# Altium schematic symbol library adafruit.SCHLIB: 655 symbols (part 4 of 4)
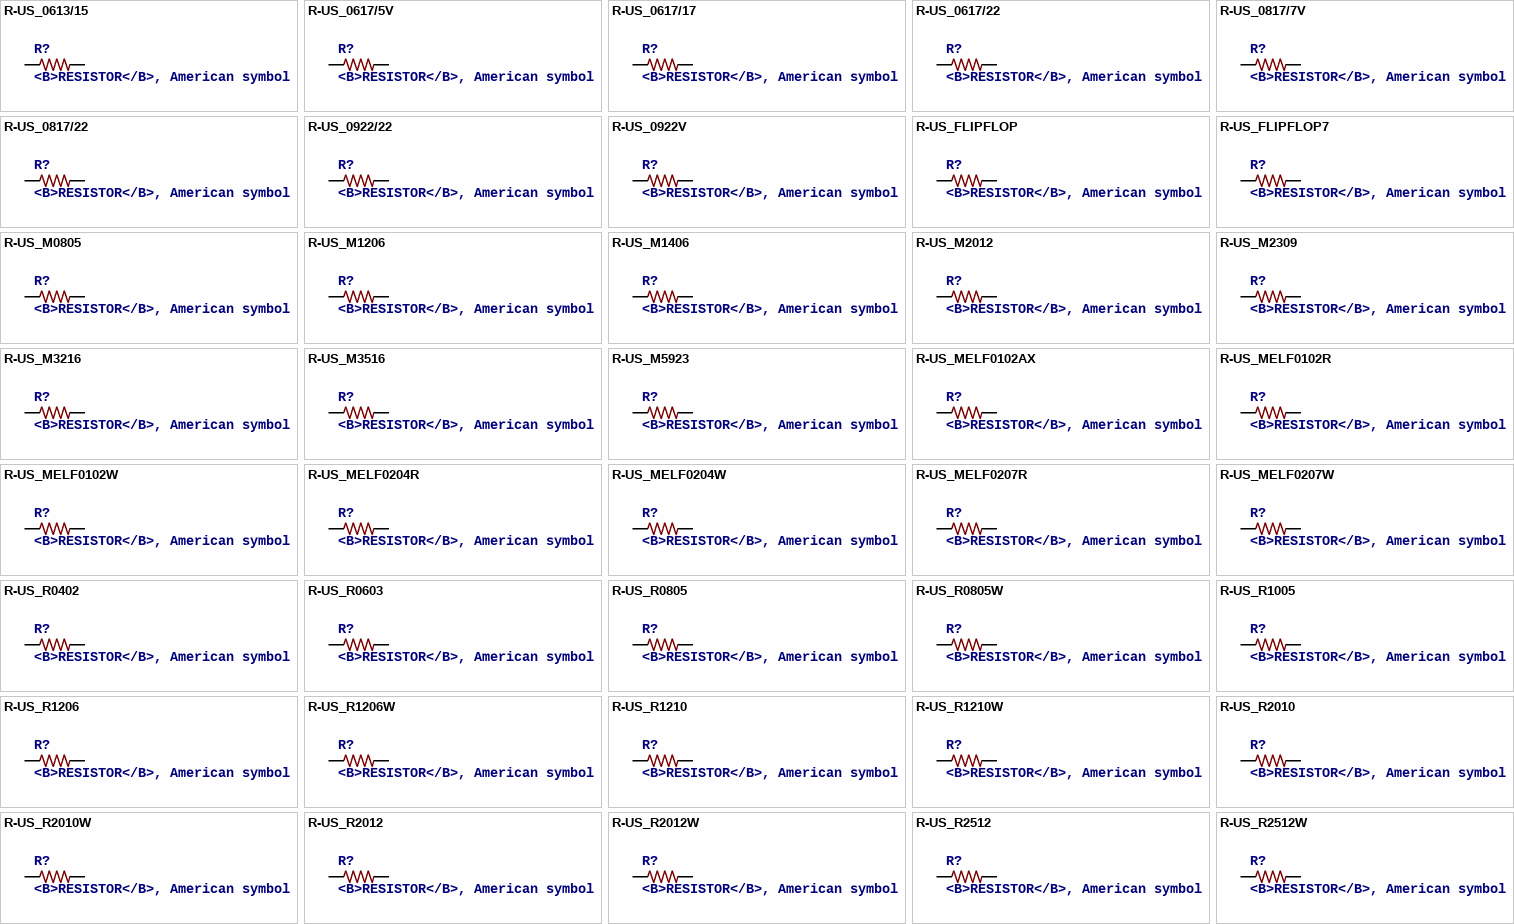
[diagram p34: symbols R-US_0613/15 to R-US_R2512W]

## R-US_MELF0207W
designator R?, comment <B>RESISTOR</B>, American symbol
footprint MINI_MELF-0207W
pins: 1, 2

## R-US_R0402
designator R?, comment <B>RESISTOR</B>, American symbol
footprint R0402
pins: 1, 2

## R-US_R0603
designator R?, comment <B>RESISTOR</B>, American symbol
footprint R0603
pins: 1, 2

## R-US_R0805
designator R?, comment <B>RESISTOR</B>, American symbol
footprint R0805
pins: 1, 2

## R-US_R0805W
designator R?, comment <B>RESISTOR</B>, American symbol
footprint R0805W
pins: 1, 2

## R-US_R1005
designator R?, comment <B>RESISTOR</B>, American symbol
footprint R1005
pins: 1, 2

## R-US_R1206
designator R?, comment <B>RESISTOR</B>, American symbol
footprint R1206
pins: 1, 2

## R-US_R1206W
designator R?, comment <B>RESISTOR</B>, American symbol
footprint R1206W
pins: 1, 2

## R-US_R1210
designator R?, comment <B>RESISTOR</B>, American symbol
footprint R1210
pins: 1, 2

## R-US_R1210W
designator R?, comment <B>RESISTOR</B>, American symbol
footprint R1210W
pins: 1, 2

## R-US_R2010
designator R?, comment <B>RESISTOR</B>, American symbol
footprint R2010
pins: 1, 2

## R-US_R2010W
designator R?, comment <B>RESISTOR</B>, American symbol
footprint R2010W
pins: 1, 2

## R-US_R2012
designator R?, comment <B>RESISTOR</B>, American symbol
footprint R2012
pins: 1, 2

## R-US_R2012W
designator R?, comment <B>RESISTOR</B>, American symbol
footprint R2012W
pins: 1, 2

## R-US_R2512
designator R?, comment <B>RESISTOR</B>, American symbol
footprint R2512
pins: 1, 2

## R-US_R2512W
designator R?, comment <B>RESISTOR</B>, American symbol
footprint R2512W
pins: 1, 2

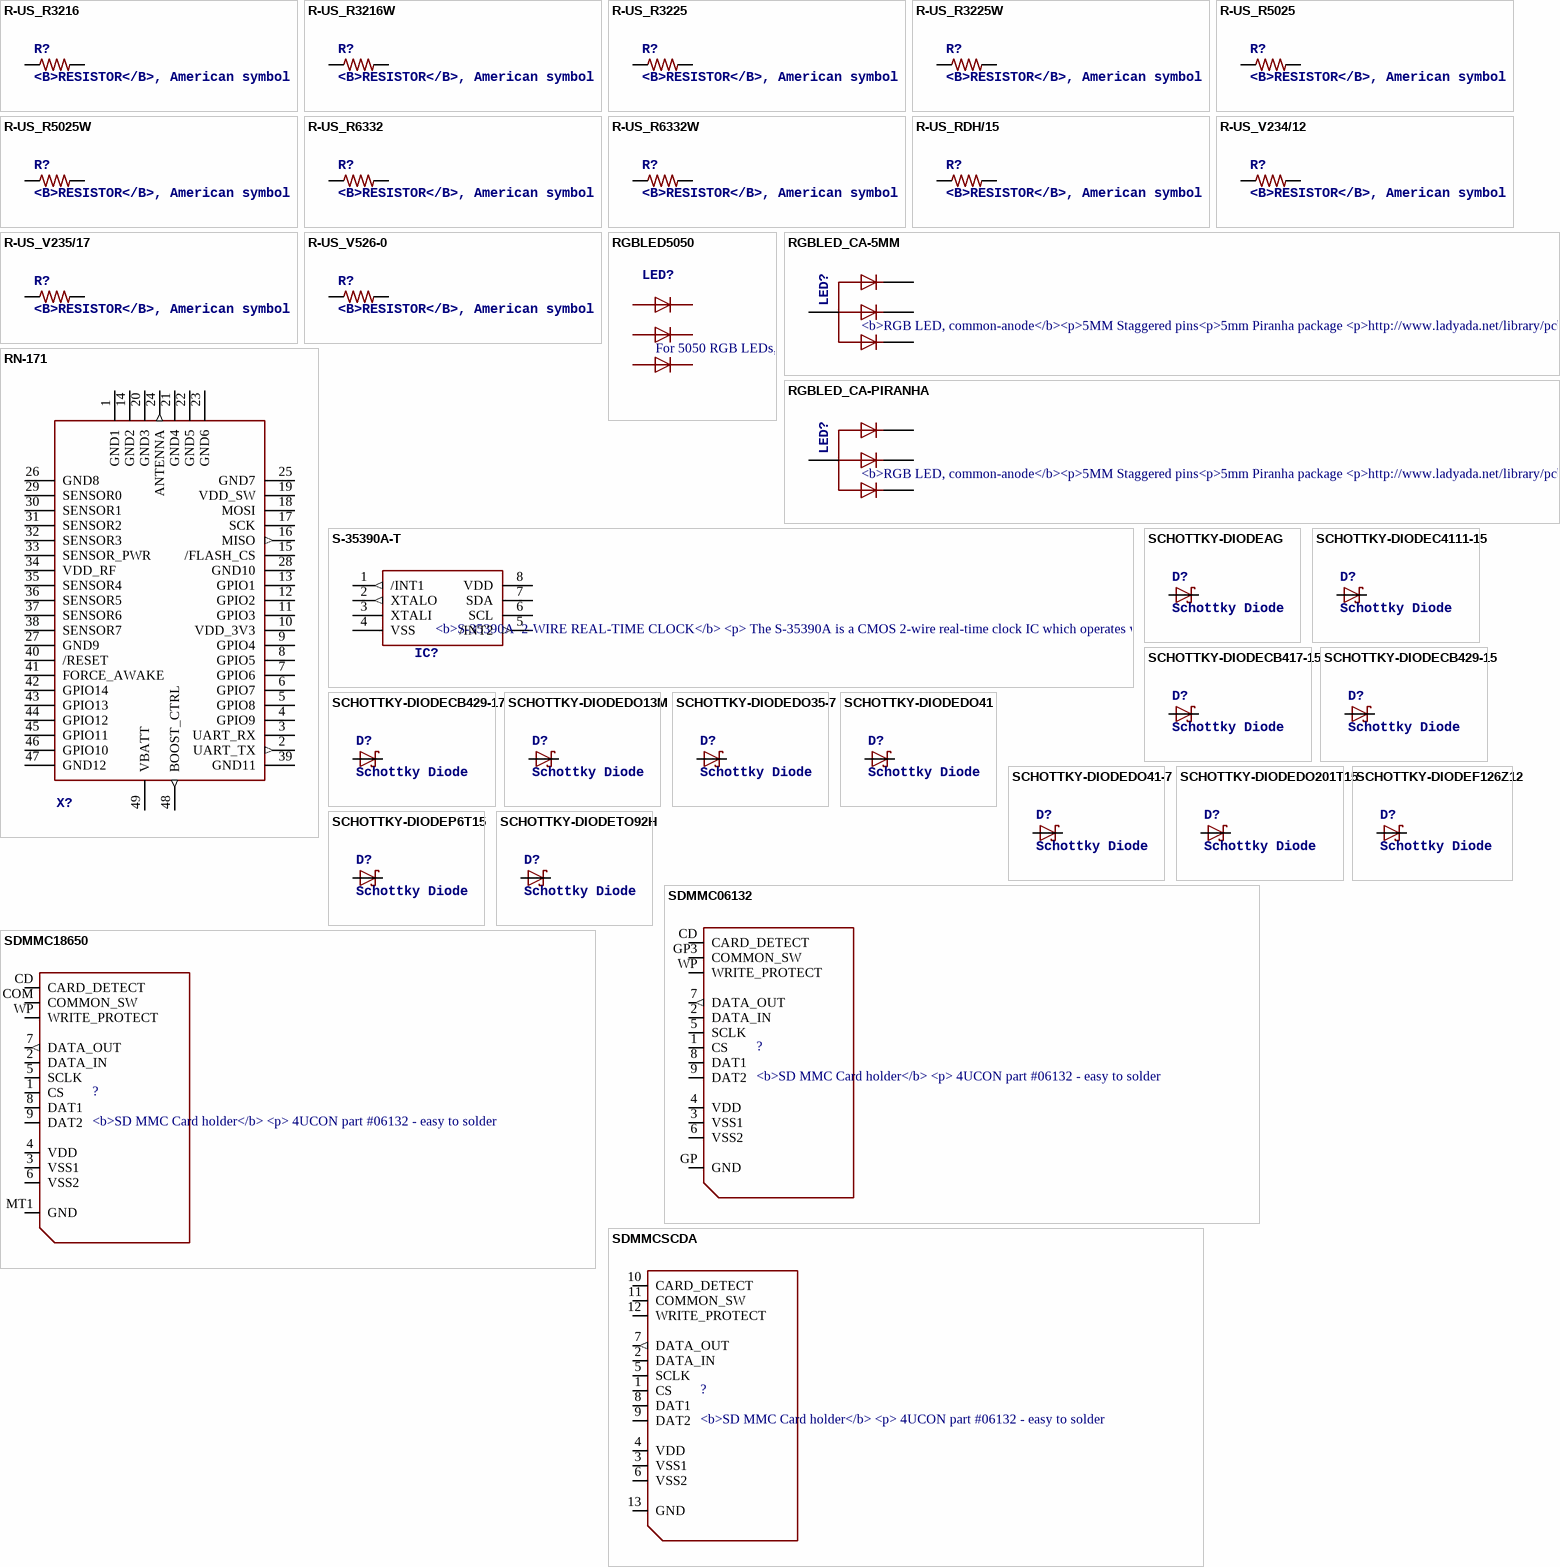
[diagram p27: symbols R-US_R3216 to SDMMCSCDA]

## R-US_R3216
designator R?, comment <B>RESISTOR</B>, American symbol
footprint R3216
pins: 1, 2

## R-US_R3216W
designator R?, comment <B>RESISTOR</B>, American symbol
footprint R3216W
pins: 1, 2

## R-US_R3225
designator R?, comment <B>RESISTOR</B>, American symbol
footprint R3225
pins: 1, 2

## R-US_R3225W
designator R?, comment <B>RESISTOR</B>, American symbol
footprint R3225W
pins: 1, 2

## R-US_R5025
designator R?, comment <B>RESISTOR</B>, American symbol
footprint R5025
pins: 1, 2

## R-US_R5025W
designator R?, comment <B>RESISTOR</B>, American symbol
footprint R5025W
pins: 1, 2

## R-US_R6332
designator R?, comment <B>RESISTOR</B>, American symbol
footprint R6332
pins: 1, 2

## R-US_R6332W
designator R?, comment <B>RESISTOR</B>, American symbol
footprint R6332W
pins: 1, 2

## R-US_RDH/15
designator R?, comment <B>RESISTOR</B>, American symbol
footprint RDH/15
pins: 1, 2

## R-US_V234/12
designator R?, comment <B>RESISTOR</B>, American symbol
footprint V234/12
pins: 1, 2

## R-US_V235/17
designator R?, comment <B>RESISTOR</B>, American symbol
footprint V235/17
pins: 1, 2

## R-US_V526-0
designator R?, comment <B>RESISTOR</B>, American symbol
footprint V526-0
pins: 1, 2

## RGBLED5050
designator LED?, comment For 5050 RGB LEDs, the order of the LEDs may vary from one manufacturer to another!
footprint RGBLED5050
pins: 1 GREEN_A, 2 RED_A, 3 BLUE_A, 4 BLUE_C, 5 RED_C, 6 GREEN_C

## RGBLED_CA-5MM
designator LED?, comment <b>RGB LED, common-anode</b><p>5MM Staggered pins<p>5mm Piranha package / <p>http://www.ladyada.net/library/pcb/eaglelibrary.html<p>
footprint LED5MMRGB
pins: 1 RED, 2 VCC, 3 GREEN, 4 BLUE

## RGBLED_CA-PIRANHA
designator LED?, comment <b>RGB LED, common-anode</b><p>5MM Staggered pins<p>5mm Piranha package / <p>http://www.ladyada.net/library/pcb/eaglelibrary.html<p>
footprint PIRANHA5MM
pins: 1 BLUE, 2 RED, 3 GREEN, 4 VCC

## RN-171
designator X?
footprint RN-171
pins: 1 GND1 (power), 2 UART_TX (out), 3 UART_RX, 4 GPIO9, 5 GPIO8, 6 GPIO7, 7 GPIO6, 8 GPIO5, 9 GPIO4, 10 VDD_3V3 (power), 11 GPIO3, 12 GPIO2, 13 GPIO1, 14 GND2 (power), 15 /FLASH_CS, 16 MISO (out), 17 SCK, 18 MOSI, 19 VDD_SW, 20 GND3 (power), 21 GND4 (power), 22 GND5 (power), 23 GND6 (power), 24 ANTENNA (out), 25 GND7 (power), 26 GND8 (power), 27 GND9 (power), 28 GND10 (power), 29 SENSOR0, 30 SENSOR1, 31 SENSOR2, 32 SENSOR3, 33 SENSOR_PWR (power), 34 VDD_RF (power), 35 SENSOR4, 36 SENSOR5, 37 SENSOR6, 38 SENSOR7, 39 GND11 (power), 40 /RESET, 41 FORCE_AWAKE, 42 GPIO14, 43 GPIO13, 44 GPIO12, 45 GPIO11, 46 GPIO10, 47 GND12 (power), 48 BOOST_CTRL (out), 49 VBATT

## S-35390A-T
designator IC?, comment <b>S-35390A  2-WIRE REAL-TIME CLOCK</b> / <p> / The S-35390A is a CMOS 2-wire real-time clock IC which operates with the very low current consumption and in the wide / range of operation voltage. The operation voltage is 1.3 V to 5.5 V so that this IC can be used for various power supplies from / main supply to backup battery. Due to the 0.25 ?A current consumption and wide range of power supply voltage at time / keeping, this IC makes the battery life longer. In the system which operates with a backup battery, the included free registers / can be used as the function for user?s backup memory
footprint TSSOP-8
pins: 1 /INT1 (out), 2 XTALO (out), 3 XTALI, 4 VSS (power), 5 /INT2 (out), 6 SCL, 7 SDA, 8 VDD (power)

## SCHOTTKY-DIODEAG
designator D?, comment Schottky Diode
footprint AG
pins: A, C

## SCHOTTKY-DIODEC4111-15
designator D?, comment Schottky Diode
footprint C4111-15
pins: A, C

## SCHOTTKY-DIODECB417-15
designator D?, comment Schottky Diode
footprint CB417-15
pins: A, C

## SCHOTTKY-DIODECB429-15
designator D?, comment Schottky Diode
footprint CB429-15
pins: A, C

## SCHOTTKY-DIODECB429-17
designator D?, comment Schottky Diode
footprint CB429-17
pins: A, C

## SCHOTTKY-DIODEDO13M
designator D?, comment Schottky Diode
footprint DO13M
pins: A, C

## SCHOTTKY-DIODEDO35-7
designator D?, comment Schottky Diode
footprint DO35-7
pins: A, C

## SCHOTTKY-DIODEDO41
designator D?, comment Schottky Diode
footprint DO41-10
pins: A, C

## SCHOTTKY-DIODEDO41-7
designator D?, comment Schottky Diode
footprint DO41-7
pins: A, C

## SCHOTTKY-DIODEDO201T15
designator D?, comment Schottky Diode
footprint DO201T15
pins: A, C

## SCHOTTKY-DIODEF126Z12
designator D?, comment Schottky Diode
footprint F126Z12
pins: A, C

## SCHOTTKY-DIODEP6T15
designator D?, comment Schottky Diode
footprint P6T15
pins: A, C

## SCHOTTKY-DIODETO92H
designator D?, comment Schottky Diode
footprint TO92H
pins: 1 A, 2 C

## SDMMC06132
designator ?, comment <b>SD MMC Card holder</b> / <p> / 4UCON part #06132 - easy to solder
footprint 06132
pins: 1 CS, 2 DATA_IN, 3 VSS1 (oe), 4 VDD (oe), 5 SCLK, 6 VSS2 (oe), 7 DATA_OUT (out), 8 DAT1, 9 DAT2, CD CARD_DETECT, GP GND (oe), GP3 COMMON_SW, WP WRITE_PROTECT

## SDMMC18650
designator ?, comment <b>SD MMC Card holder</b> / <p> / 4UCON part #06132 - easy to solder
footprint SDCARD
pins: 1 CS, 2 DATA_IN, 3 VSS1 (oe), 4 VDD (oe), 5 SCLK, 6 VSS2 (oe), 7 DATA_OUT (out), 8 DAT1, 9 DAT2, CD CARD_DETECT, COM COMMON_SW, MT1 GND (oe), WP WRITE_PROTECT

## SDMMCSCDA
designator ?, comment <b>SD MMC Card holder</b> / <p> / 4UCON part #06132 - easy to solder
footprint SCDA
pins: 1 CS, 2 DATA_IN, 3 VSS1 (oe), 4 VDD (oe), 5 SCLK, 6 VSS2 (oe), 7 DATA_OUT (out), 8 DAT1, 9 DAT2, 10 CARD_DETECT, 11 COMMON_SW, 12 WRITE_PROTECT, 13 GND (oe)

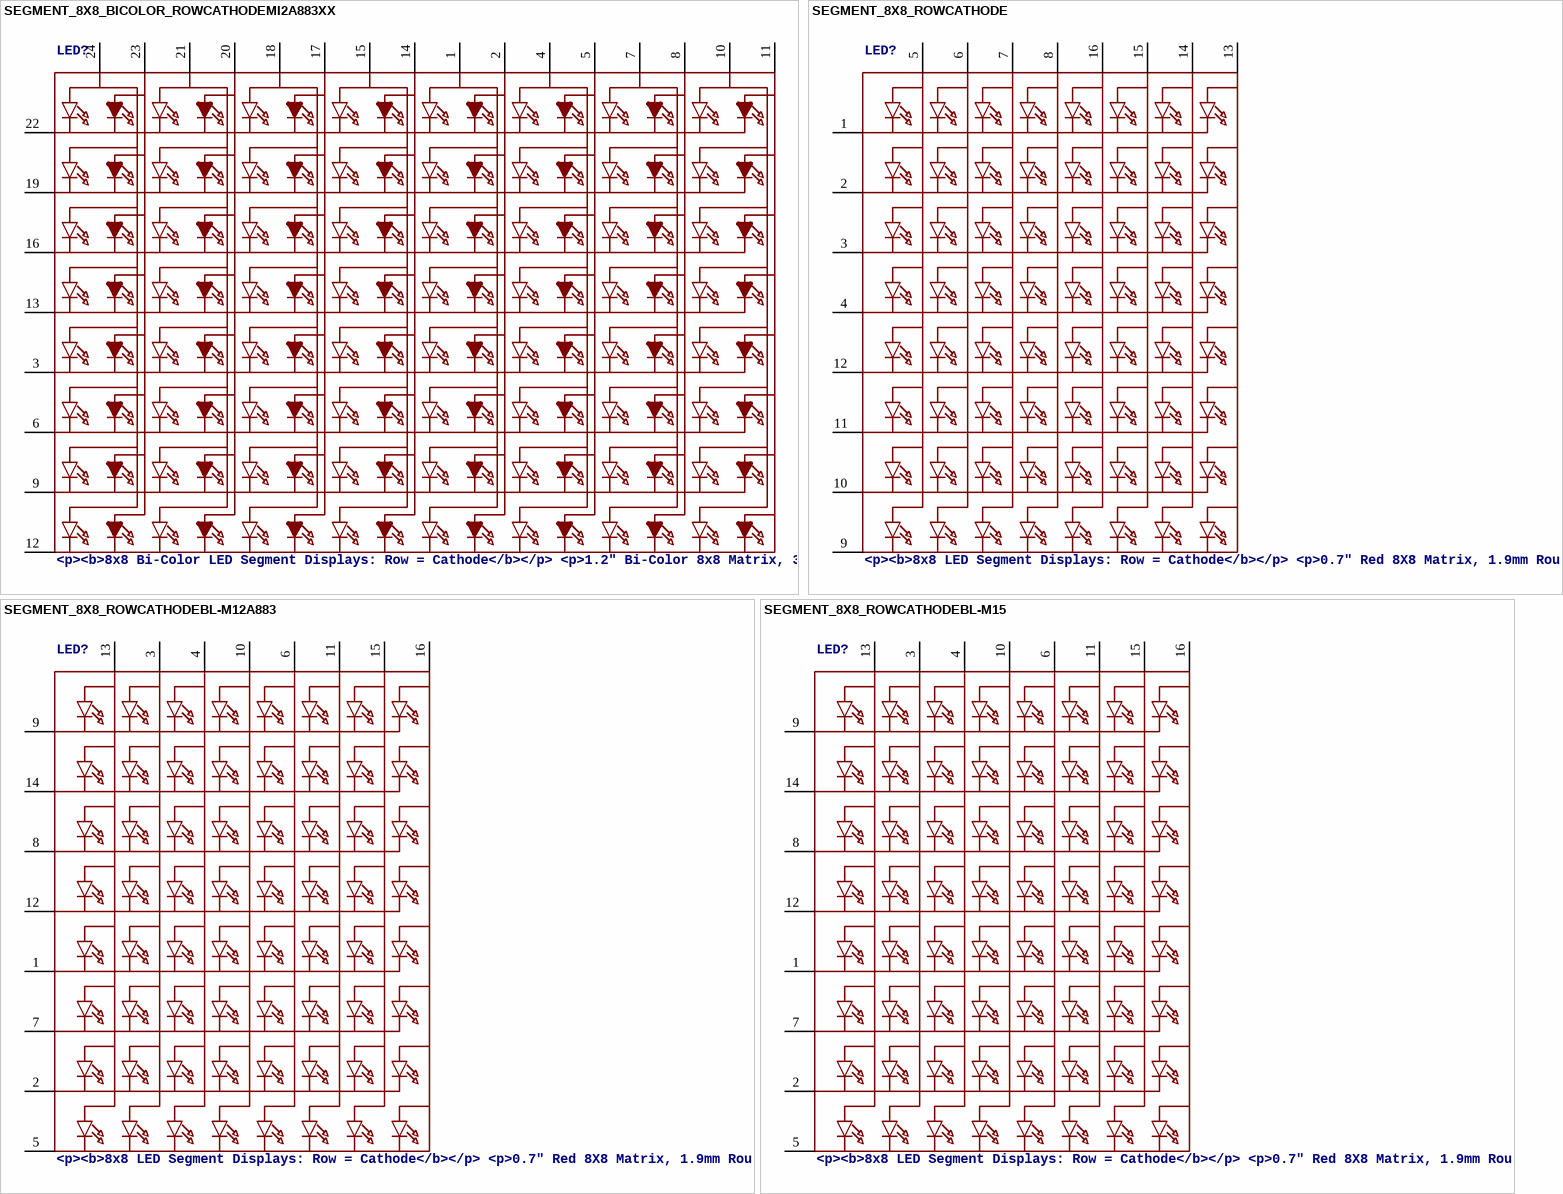
[diagram p28: symbols SEGMENT_8X8_BICOLOR_ROWCATHODEMI2A883XX to SEGMENT_8X8_ROWCATHODEBL-M15]

## SEGMENT_8X8_BICOLOR_ROWCATHODEMI2A883XX
designator LED?, comment <p><b>8x8 Bi-Color LED Segment Displays: Row = Cathode</b></p> / <p>1.2" Bi-Color 8x8 Matrix, 3.0mm Square LEDs - BL-M12A883XX</p>
footprint SEGMENT_BICOL_BL-M12A883XX
pins: 1 A9, 2 A10, 3 K5, 4 A11, 5 A12, 6 K6, 7 A13, 8 A14, 9 K7, 10 A15, 11 A16, 12 K8, 13 K4, 14 A8, 15 A7, 16 K3, 17 A6, 18 A5, 19 K2, 20 A4, 21 A3, 22 K1, 23 A2, 24 A1

## SEGMENT_8X8_ROWCATHODE
designator LED?, comment <p><b>8x8 LED Segment Displays: Row = Cathode</b></p> / <p>0.7" Red 8X8 Matrix, 1.9mm Round LEDs - BL-M07C881UR</p> / <p>1.2" Red 8x8 Matrix, 3.0mm Round LEDs - BL-M12A881UR</p> / <p>1.2" Red 8x8 Matrix, 3.0mm Square LEDs - BL-M12A883</p>
footprint SEGMENT_BL-M07C881UR
pins: 1 K1, 2 K2, 3 K3, 4 K4, 5 A1, 6 A2, 7 A3, 8 A4, 9 K8, 10 K7, 11 K6, 12 K5, 13 A8, 14 A7, 15 A6, 16 A5

## SEGMENT_8X8_ROWCATHODEBL-M12A883
designator LED?, comment <p><b>8x8 LED Segment Displays: Row = Cathode</b></p> / <p>0.7" Red 8X8 Matrix, 1.9mm Round LEDs - BL-M07C881UR</p> / <p>1.2" Red 8x8 Matrix, 3.0mm Round LEDs - BL-M12A881UR</p> / <p>1.2" Red 8x8 Matrix, 3.0mm Square LEDs - BL-M12A883</p>
footprint SEGMENT_BL-M12A883
pins: 1 K5, 2 K7, 3 A2, 4 A3, 5 K8, 6 A5, 7 K6, 8 K3, 9 K1, 10 A4, 11 A6, 12 K4, 13 A1, 14 K2, 15 A7, 16 A8

## SEGMENT_8X8_ROWCATHODEBL-M15
designator LED?, comment <p><b>8x8 LED Segment Displays: Row = Cathode</b></p> / <p>0.7" Red 8X8 Matrix, 1.9mm Round LEDs - BL-M07C881UR</p> / <p>1.2" Red 8x8 Matrix, 3.0mm Round LEDs - BL-M12A881UR</p> / <p>1.2" Red 8x8 Matrix, 3.0mm Square LEDs - BL-M12A883</p>
footprint SEGMENT_BL-M15A881
pins: 1 K5, 2 K7, 3 A2, 4 A3, 5 K8, 6 A5, 7 K6, 8 K3, 9 K1, 10 A4, 11 A6, 12 K4, 13 A1, 14 K2, 15 A7, 16 A8

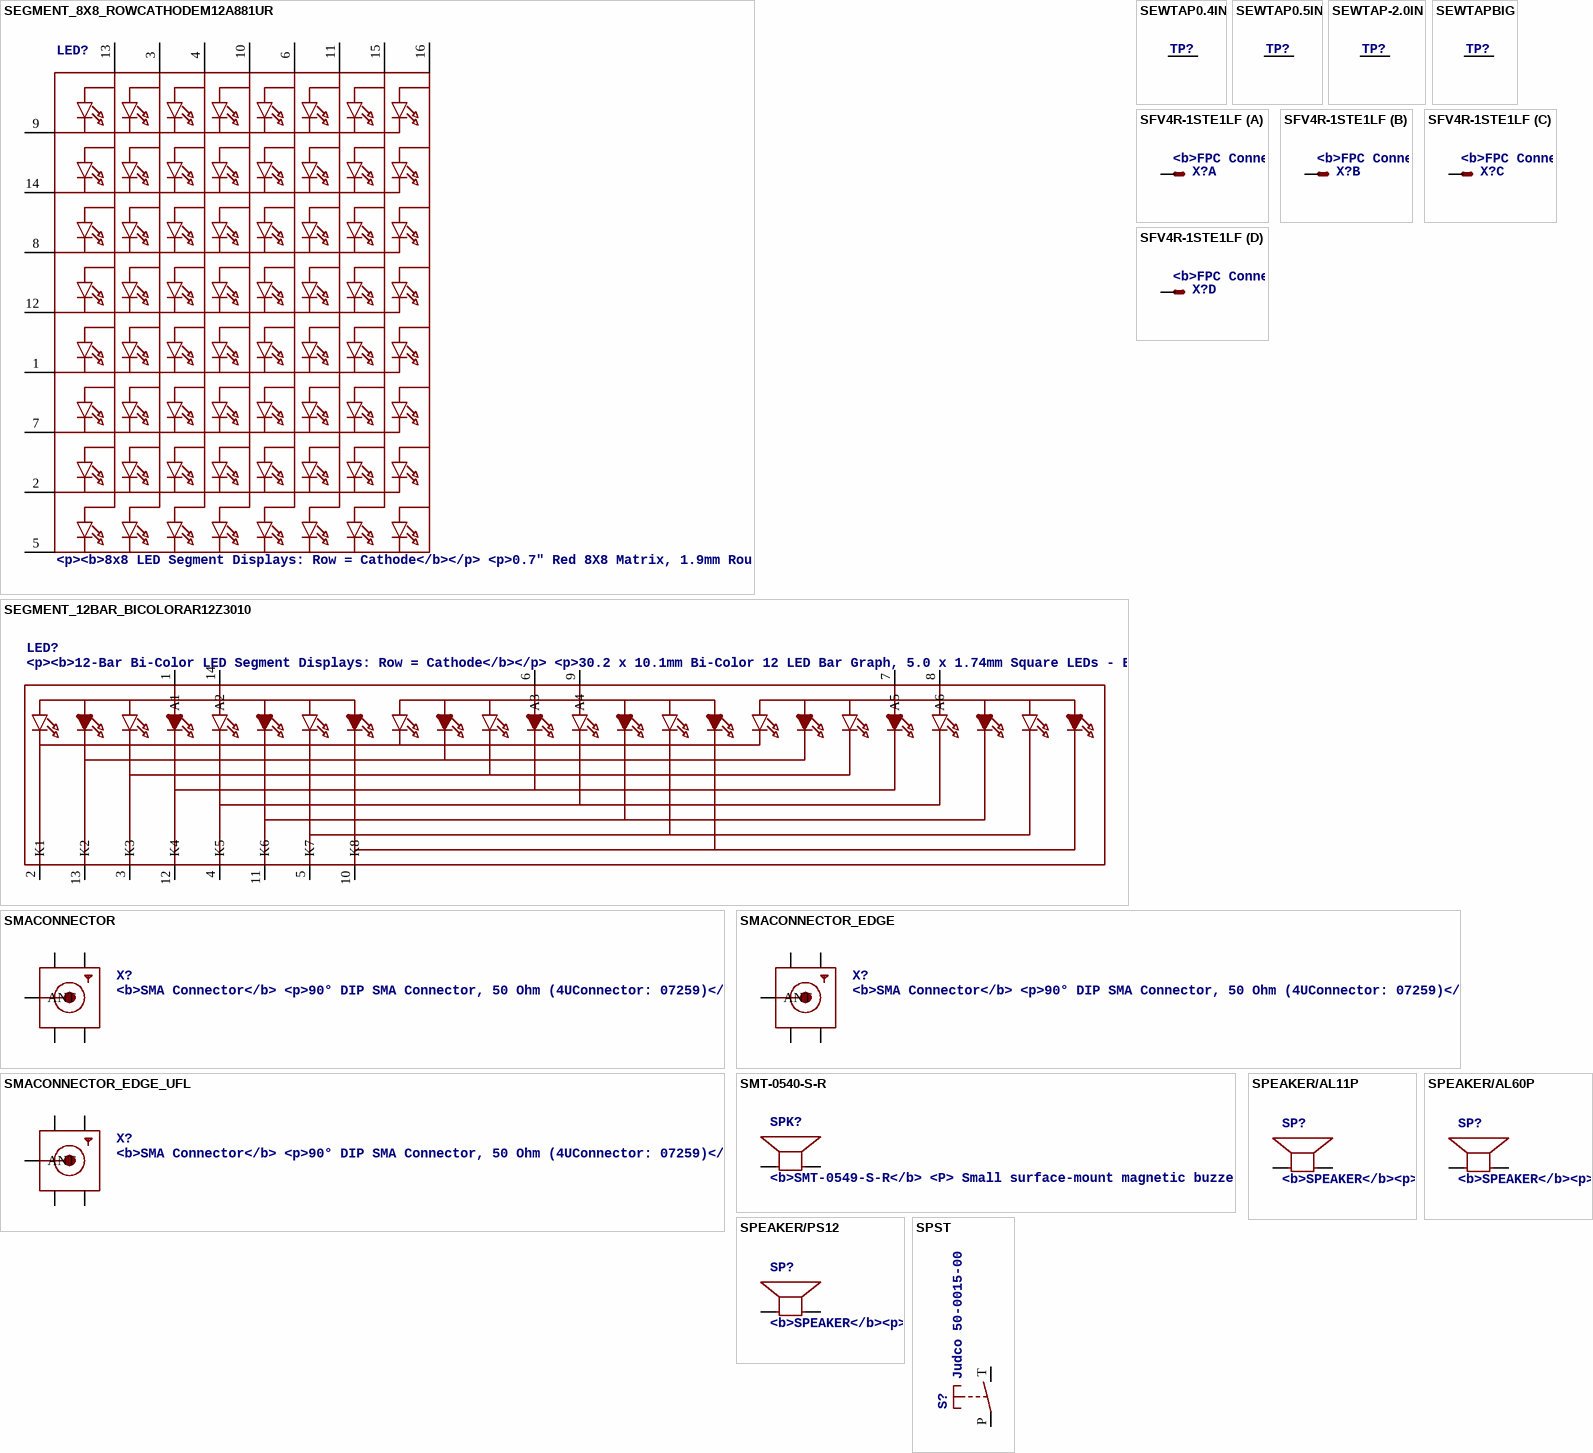
[diagram p29: symbols SEGMENT_8X8_ROWCATHODEM12A881UR to SPST]

## SEGMENT_8X8_ROWCATHODEM12A881UR
designator LED?, comment <p><b>8x8 LED Segment Displays: Row = Cathode</b></p> / <p>0.7" Red 8X8 Matrix, 1.9mm Round LEDs - BL-M07C881UR</p> / <p>1.2" Red 8x8 Matrix, 3.0mm Round LEDs - BL-M12A881UR</p> / <p>1.2" Red 8x8 Matrix, 3.0mm Square LEDs - BL-M12A883</p>
footprint SEGMENT_BL-M12A881UR
pins: 1 K5, 2 K7, 3 A2, 4 A3, 5 K8, 6 A5, 7 K6, 8 K3, 9 K1, 10 A4, 11 A6, 12 K4, 13 A1, 14 K2, 15 A7, 16 A8

## SEGMENT_12BAR_BICOLORAR12Z3010
designator LED?, comment <p><b>12-Bar Bi-Color LED Segment Displays: Row = Cathode</b></p> / <p>30.2 x 10.1mm Bi-Color 12 LED Bar Graph, 5.0 x 1.74mm Square LEDs - BL-AR12Z3010</p>
footprint SEGMENT_BICOL_BL-AR12Z3010
pins: 1 A1, 2 K1, 3 K3, 4 K5, 5 K7, 6 A3, 7 A5, 8 A6, 9 A4, 10 K8, 11 K6, 12 K4, 13 K2, 14 A2

## SEWTAP0.4IN
designator TP?
footprint SEWINGTAP_0.4
pins: TAP SEW

## SEWTAP0.5IN
designator TP?
footprint SEWINGTAP_0.5
pins: TAP SEW

## SEWTAP-2.0IN
designator TP?
footprint SEWINGTAP_2.0
pins: P$1 SEW

## SEWTAPBIG
designator TP?
footprint BIGTAP
pins: P$1 SEW

## SFV4R-1STE1LF
designator X?, comment <b>FPC Connector ZIF for SMT 0.5mm</b><p> / SFV4R-1STE1LF / Useful as the LED backlight connector for a PSP display
footprint SFV4R-1STE1LF
part A pins: 1 S
part B pins: 2 S
part C pins: 3 S
part D pins: 4 S

## SMACONNECTOR
designator X?, comment <b>SMA Connector</b> / <p>90° DIP SMA Connector, 50 Ohm (4UConnector: 07259)</p>
footprint SMA90_DIP
pins: ANTENNA ANT, GND1 (power), GND2 (power), GND3 (power), GND4 (power)

## SMACONNECTOR_EDGE
designator X?, comment <b>SMA Connector</b> / <p>90° DIP SMA Connector, 50 Ohm (4UConnector: 07259)</p>
footprint SMA_EDGELAUNCH
pins: GND@1 GND4 (power), GND@2 GND3 (power), GND@3 GND2 (power), GND@4 GND1 (power), P ANT

## SMACONNECTOR_EDGE_UFL
designator X?, comment <b>SMA Connector</b> / <p>90° DIP SMA Connector, 50 Ohm (4UConnector: 07259)</p>
footprint SMA_EDGELAUNCH_UFL
pins: GND@1 GND1 (power), GND@2 GND2 (power), GND@3 GND3 (power), GND@4 GND4 (power), P ANT

## SMT-0540-S-R
designator SPK?, comment <b>SMT-0549-S-R</b> / <P> / Small surface-mount magnetic buzzer
footprint SMT-0540-S-R
pins: + -, - +

## SPEAKER/AL11P
designator SP?, comment <b>SPEAKER</b><p> Source: Buerklin<p>Added PS12 (for part # PS1240 piezo) <p>http://www.ladyada.net/library/pcb/eaglelibrary.html<p>
footprint AL11P
pins: +, -

## SPEAKER/AL60P
designator SP?, comment <b>SPEAKER</b><p> Source: Buerklin<p>Added PS12 (for part # PS1240 piezo) <p>http://www.ladyada.net/library/pcb/eaglelibrary.html<p>
footprint AL60P
pins: 1 +, 2 -

## SPEAKER/PS12
designator SP?, comment <b>SPEAKER</b><p> Source: Buerklin<p>Added PS12 (for part # PS1240 piezo) <p>http://www.ladyada.net/library/pcb/eaglelibrary.html<p>
footprint PS12
pins: P$1 +, P$2 -

## SPST
designator S?, comment Judco 50-0015-00
footprint JUDCOSPST
pins: P, T S

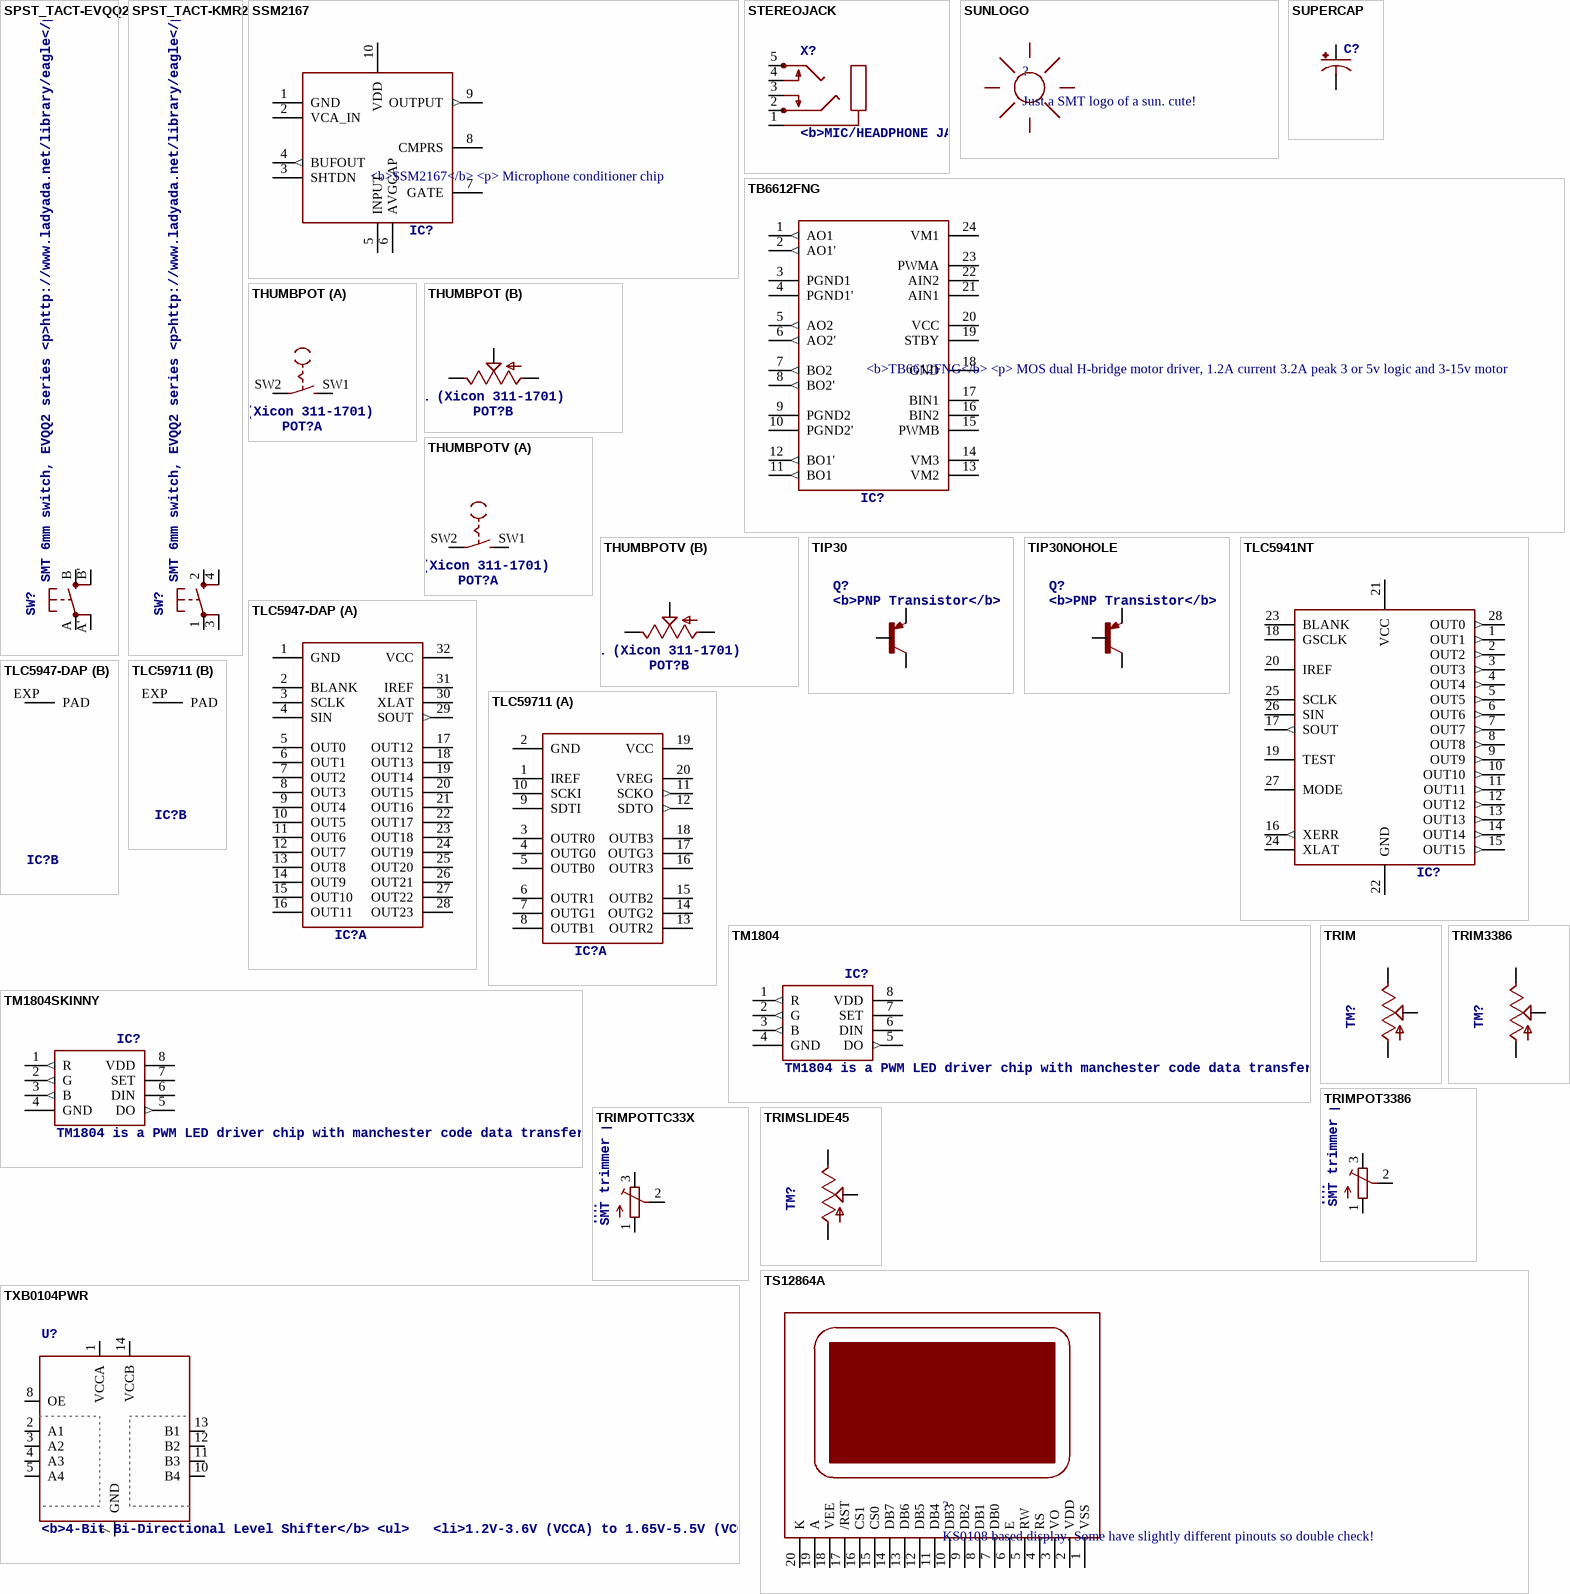
[diagram p30: symbols SPST_TACT-EVQQ2 to TXB0104PWR]

## SPST_TACT-EVQQ2
designator SW?, comment SMT 6mm switch, EVQQ2 series / <p>http://www.ladyada.net/library/eagle</p>
footprint EVQ-Q2
pins: A P, A' P1, B S, B' S1

## SPST_TACT-KMR2
designator SW?, comment SMT 6mm switch, EVQQ2 series / <p>http://www.ladyada.net/library/eagle</p>
footprint KMR2
pins: 1 P, 2 S, 3 P1, 4 S1

## SSM2167
designator IC?, comment <b>SSM2167</b> / <p> / Microphone conditioner chip
footprint MSOP10
pins: 1 GND (power), 2 VCA_IN, 3 SHTDN, 4 BUFOUT (out), 5 INPUT, 6 AVGCAP, 7 GATE, 8 CMPRS, 9 OUTPUT (out), 10 VDD (power)

## STEREOJACK
designator X?, comment <b>MIC/HEADPHONE JACK</b><p> / Stereo jack with two switches. Kycon STX3100, CUI SJ1-3555NG and/or 4UCon 05544
footprint STX3100
pins: 1, 2, 3, 4, 5

## SUNLOGO
designator ?, comment Just a SMT logo of a sun. cute!
footprint SUN

## SUPERCAP
designator C?
footprint 414-VA5R
pins: +, -

## TB6612FNG
designator IC?, comment <b>TB6612FNG</b> / <p> / MOS dual H-bridge motor driver, 1.2A current 3.2A peak / 3 or 5v logic and 3-15v motor
footprint SSOP24
pins: 1 AO1 (out), 2 AO1' (out), 3 PGND1 (power), 4 PGND1' (power), 5 AO2 (out), 6 AO2' (out), 7 BO2 (out), 8 BO2' (out), 9 PGND2 (power), 10 PGND2' (power), 11 BO1 (out), 12 BO1' (out), 13 VM2 (power), 14 VM3 (power), 15 PWMB, 16 BIN2, 17 BIN1, 18 GND (power), 19 STBY, 20 VCC (power), 21 AIN1, 22 AIN2, 23 PWMA, 24 VM1 (power)

## THUMBPOT
designator POT?, comment <b>Thumbwheel pot with switch</b> / <p> / Available in horizontal (Alpha RV121SF) or vertical (Xicon 311-1701)
footprint THUMBWHEEL
part A pins: SW1 S, SW2 P
part B pins: 1 A, 2 S, 3 E

## THUMBPOTV
designator POT?, comment <b>Thumbwheel pot with switch</b> / <p> / Available in horizontal (Alpha RV121SF) or vertical (Xicon 311-1701)
footprint THUMBWHEELV
part A pins: SW1 S, SW2 P
part B pins: A, E, S

## TIP30
designator Q?, comment <b>PNP Transistor</b>
footprint TO220
pins: 1 B, 2 C, 3 E

## TIP30NOHOLE
designator Q?, comment <b>PNP Transistor</b>
footprint TO220-NOHOLE
pins: 1 B, 2 C, 3 E

## TLC5941NT
designator IC?
footprint DIL28-3
pins: 1 OUT1 (out), 2 OUT2 (out), 3 OUT3 (out), 4 OUT4 (out), 5 OUT5 (out), 6 OUT6 (out), 7 OUT7 (out), 8 OUT8 (out), 9 OUT9 (out), 10 OUT10 (out), 11 OUT11 (out), 12 OUT12 (out), 13 OUT13 (out), 14 OUT14 (out), 15 OUT15 (out), 16 XERR (out), 17 SOUT (out), 18 GSCLK, 19 TEST, 20 IREF, 21 VCC (power), 22 GND (power), 23 BLANK, 24 XLAT, 25 SCLK, 26 SIN, 27 MODE, 28 OUT0 (out)

## TLC5947-DAP
designator IC?
footprint HTSSOP32DAP
part A pins: 1 GND (power), 2 BLANK, 3 SCLK, 4 SIN, 5 OUT0 (oc), 6 OUT1 (oc), 7 OUT2 (oc), 8 OUT3 (oc), 9 OUT4 (oc), 10 OUT5 (oc), 11 OUT6 (oc), 12 OUT7 (oc), 13 OUT8 (oc), 14 OUT9 (oc), 15 OUT10 (oc), 16 OUT11 (oc), 17 OUT12 (oc), 18 OUT13 (oc), 19 OUT14 (oc), 20 OUT15 (oc), 21 OUT16 (oc), 22 OUT17 (oc), 23 OUT18 (oc), 24 OUT19 (oc), 25 OUT20 (oc), 26 OUT21 (oc), 27 OUT22 (oc), 28 OUT23 (oc), 29 SOUT (out), 30 XLAT, 31 IREF, 32 VCC (power)
part B pins: EXP PAD

## TLC59711
designator IC?
footprint HTSSOP20DAP
part A pins: 1 IREF, 2 GND (power), 3 OUTR0 (oc), 4 OUTG0 (oc), 5 OUTB0 (oc), 6 OUTR1 (oc), 7 OUTG1 (oc), 8 OUTB1 (oc), 9 SDTI, 10 SCKI, 11 SCKO (out), 12 SDTO (out), 13 OUTR2 (oc), 14 OUTG2 (oc), 15 OUTB2 (oc), 16 OUTR3 (oc), 17 OUTG3 (oc), 18 OUTB3 (oc), 19 VCC (power), 20 VREG
part B pins: EXP PAD

## TM1804
designator IC?, comment TM1804 is a PWM LED driver chip with manchester code data transfer!
footprint SO08
pins: 1 R (out), 2 G (out), 3 B (out), 4 GND (power), 5 DO (out), 6 DIN, 7 SET, 8 VDD (power)

## TM1804SKINNY
designator IC?, comment TM1804 is a PWM LED driver chip with manchester code data transfer!
footprint SO08-SKINNYPADS
pins: 1 R (out), 2 G (out), 3 B (out), 4 GND (power), 5 DO (out), 6 DIN, 7 SET, 8 VDD (power)

## TRIM
designator TM?
footprint 6MM
pins: A, E, S

## TRIM3386
designator TM?
footprint TRIM-3386
pins: A, E, S

## TRIMPOT3386
designator TM?, comment SMT trimmer potentiometer part number TC33X / <p>http://www.ladyada.net/library/eagle</p>
footprint TRIM-3386
pins: 1 A, 2 S, 3 E

## TRIMPOTTC33X
designator TM?, comment SMT trimmer potentiometer part number TC33X / <p>http://www.ladyada.net/library/eagle</p>
footprint TC33X
pins: 1 A, 2 S, 3 E

## TRIMSLIDE45
designator TM?
footprint SLIDEPOT-45
pins: A, B S, C E

## TS12864A
designator ?, comment KS0108 based display. Some have slightly different pinouts so double check!
footprint TS12864
pins: 1 VSS (oe), 2 VDD (oe), 3 VO, 4 RS, 5 RW, 6 E, 7 DB0, 8 DB1, 9 DB2, 10 DB3, 11 DB4, 12 DB5, 13 DB6, 14 DB7, 15 CS0, 16 CS1, 17 /RST, 18 VEE (oe), 19 A (oe), 20 K

## TXB0104PWR
designator U?, comment <b>4-Bit Bi-Directional Level Shifter</b> / <ul> / <li>1.2V-3.6V (VCCA) to 1.65V-5.5V (VCCB) bi-directional level shifter with auto direction sensing.</li> / <li>Max data rate - VCCA 1.8V:  20Mbps (50ns), VCCA 3.3V: 100Mbps (10ns)</li> / </ul> / <p>Digikey: 296-21929-1-ND</p>
footprint TSSOP14
pins: 1 VCCA, 2 A1, 3 A2, 4 A3, 5 A4, 7 GND, 8 OE, 10 B4, 11 B3, 12 B2, 13 B1, 14 VCCB

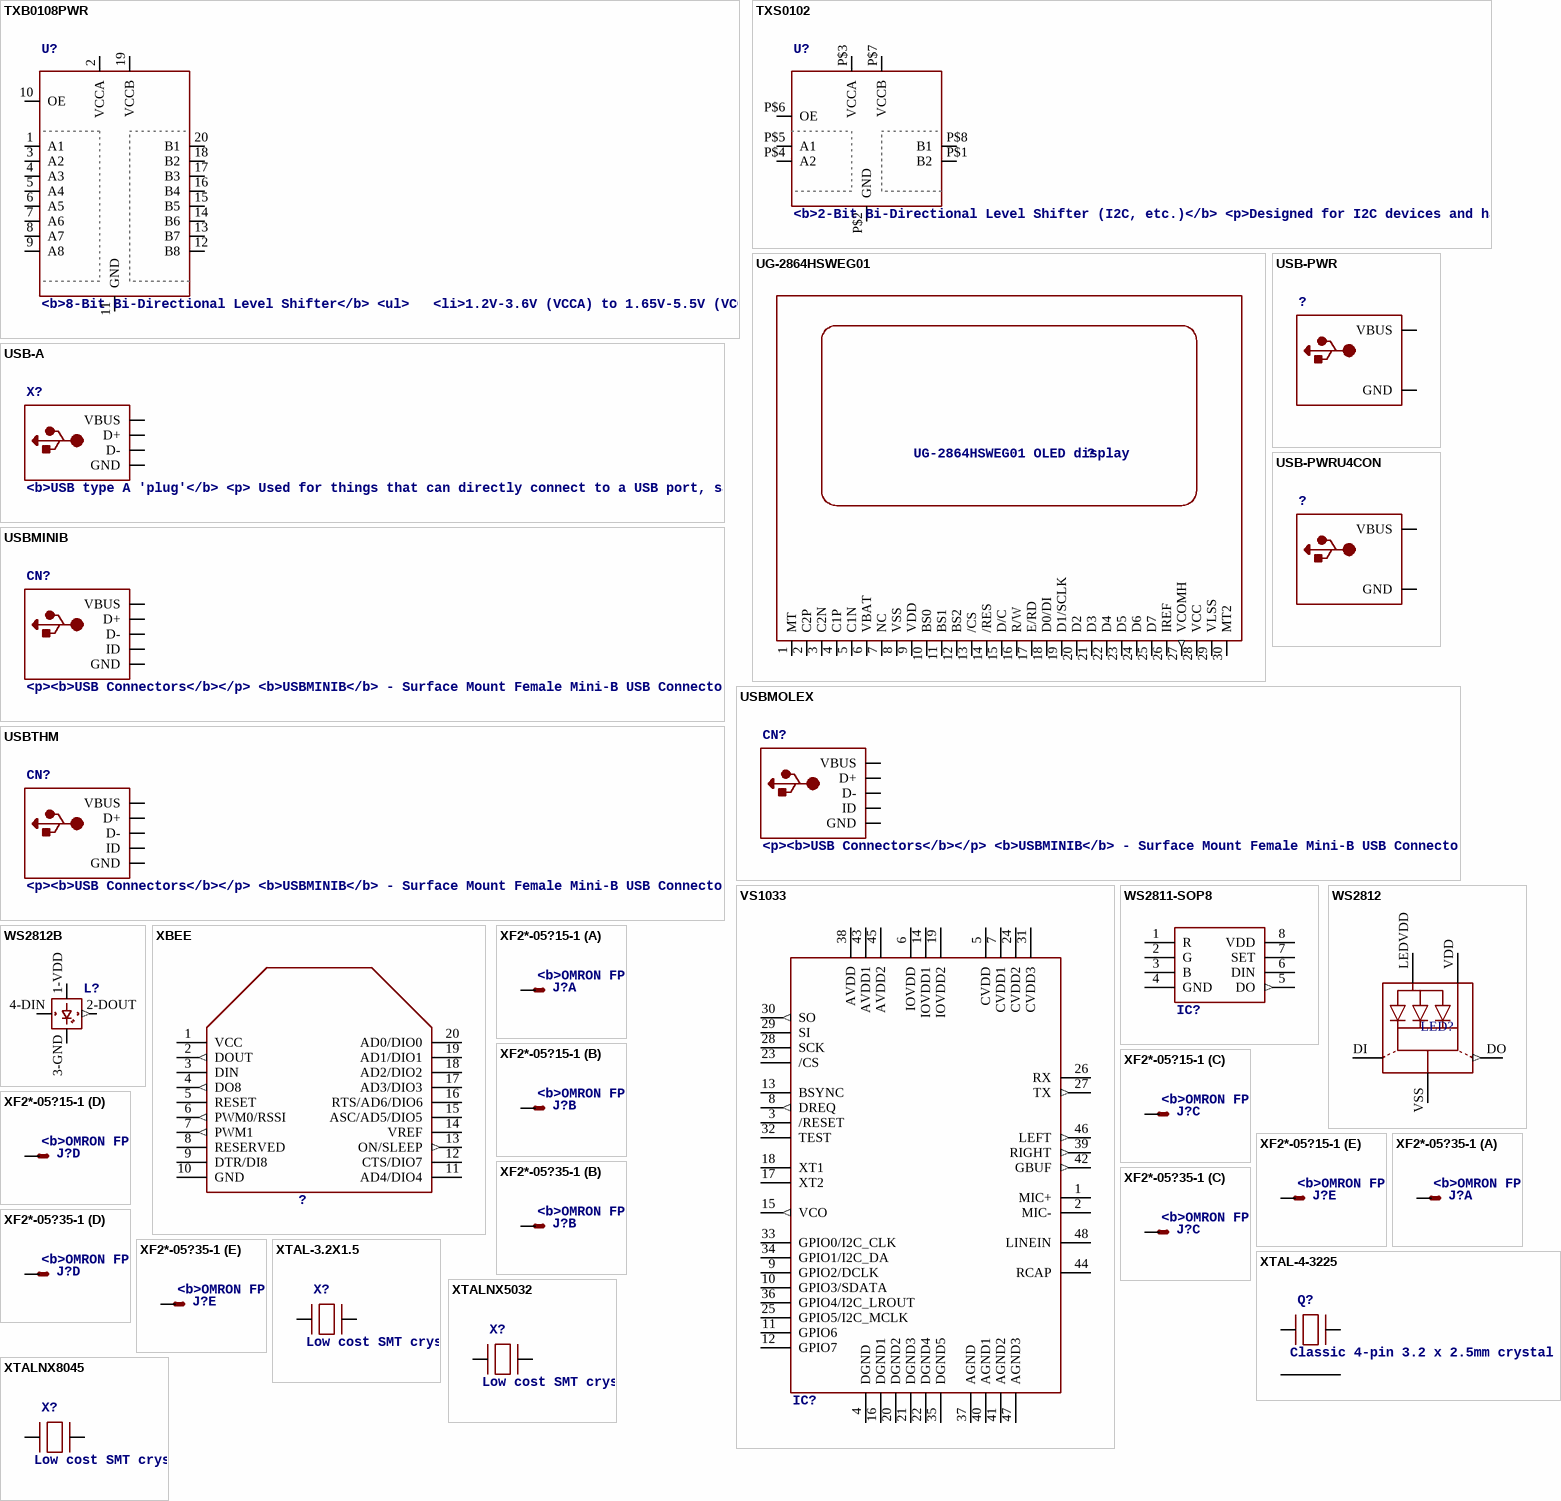
[diagram p31: symbols TXB0108PWR to XTALNX8045]

## TXB0108PWR
designator U?, comment <b>8-Bit Bi-Directional Level Shifter</b> / <ul> / <li>1.2V-3.6V (VCCA) to 1.65V-5.5V (VCCB) bi-directional level shifter with auto direction sensing.</li> / <li>Max data rate - VCCA 1.8V:  20Mbps (50ns), VCCA 3.3V: 100Mbps (10ns)</li> / </ul> / <p>Digikey: 296-21527-1-ND</p>
footprint TSSOP20
pins: 1 A1, 2 VCCA, 3 A2, 4 A3, 5 A4, 6 A5, 7 A6, 8 A7, 9 A8, 10 OE, 11 GND, 12 B8, 13 B7, 14 B6, 15 B5, 16 B4, 17 B3, 18 B2, 19 VCCB, 20 B1

## TXS0102
designator U?, comment <b>2-Bit Bi-Directional Level Shifter (I2C, etc.)</b> / <p>Designed for I2C devices and has internal pullups.  Not to be confused with TX<b>B</b>010x series.</p> / <ul> / <li>1.2V-3.6V (VCCA) to 1.65V-5.5V (VCCB) bi-directional level shifter with auto direction sensing.</li> / <li>Max data rate - 24Mbps (Push Pull), 2Mbps (Open Drain)</li> / </ul> / <p>Digikey: 296-21931-1-ND</p>
footprint VFSOP-8
pins: P$1 B2, P$2 GND, P$3 VCCA, P$4 A2, P$5 A1, P$6 OE, P$7 VCCB, P$8 B1

## UG-2864HSWEG01
designator ?, comment UG-2864HSWEG01 OLED display
footprint 1X30-0.7MM
pins: 1 MT, 2 C2P, 3 C2N, 4 C1P, 5 C1N, 6 VBAT, 7 NC, 8 VSS (power), 9 VDD (power), 10 BS0, 11 BS1, 12 BS2, 13 /CS, 14 /RES, 15 D/C, 16 R/W, 17 E/RD, 18 D0/DI, 19 D1/SCLK, 20 D2, 21 D3, 22 D4, 23 D5, 24 D6, 25 D7, 26 IREF, 27 VCOMH (out), 28 VCC (power), 29 VLSS (power), 30 MT2

## USB-A
designator X?, comment <b>USB type A 'plug'</b> / <p> / Used for things that can directly connect to a USB port, say USB key
footprint MOLEX_480371000
pins: 1 VBUS (power), 2 D-, 3 D+, 4 GND (power)

## USB-PWR
designator ?
footprint USB-MINIB-THM-MOLEX-PWRONLY
pins: GND (power), VBUS (power)

## USB-PWRU4CON
designator ?
footprint USB-MINIB-THM-PWRONLY
pins: GND (power), VBUS (power)

## USBMINIB
designator CN?, comment <p><b>USB Connectors</b></p> / <b>USBMINIB</b> - Surface Mount Female Mini-B USB Connector 4UConnector: 06564</p> / <p>By microbuilder.eu</p> / Thru-hole RA Female Mini-B USB Connector 4UConnector: 18732</p> / <p>By ladyada.net</p>
footprint USB-MINIB
pins: D+, D-, GND (power), ID, VBUS (power)

## USBMOLEX
designator CN?, comment <p><b>USB Connectors</b></p> / <b>USBMINIB</b> - Surface Mount Female Mini-B USB Connector 4UConnector: 06564</p> / <p>By microbuilder.eu</p> / Thru-hole RA Female Mini-B USB Connector 4UConnector: 18732</p> / <p>By ladyada.net</p>
footprint USB-MINIB-THM-MOLEX
pins: D+, D-, GND (power), ID, VBUS (power)

## USBTHM
designator CN?, comment <p><b>USB Connectors</b></p> / <b>USBMINIB</b> - Surface Mount Female Mini-B USB Connector 4UConnector: 06564</p> / <p>By microbuilder.eu</p> / Thru-hole RA Female Mini-B USB Connector 4UConnector: 18732</p> / <p>By ladyada.net</p>
footprint USB-MINIB-THM
pins: D+, D-, GND (power), ID, VBUS (power)

## VS1033
designator IC?
footprint SQFP-S-7X7-48
pins: 1 MIC+, 2 MIC-, 3 /RESET, 4 DGND (power), 5 CVDD (power), 6 IOVDD (power), 7 CVDD1 (power), 8 DREQ (out), 9 GPIO2/DCLK, 10 GPIO3/SDATA, 11 GPIO6, 12 GPIO7, 13 BSYNC, 14 IOVDD1 (power), 15 VCO (out), 16 DGND1 (power), 17 XT2, 18 XT1, 19 IOVDD2 (power), 20 DGND2 (power), 21 DGND3 (power), 22 DGND4 (power), 23 /CS, 24 CVDD2 (power), 25 GPIO5/I2C_MCLK, 26 RX, 27 TX (out), 28 SCK, 29 SI, 30 SO (out), 31 CVDD3 (power), 32 TEST, 33 GPIO0/I2C_CLK, 34 GPIO1/I2C_DA, 35 DGND5 (power), 36 GPIO4/I2C_LROUT, 37 AGND (power), 38 AVDD (power), 39 RIGHT (out), 40 AGND1 (power), 41 AGND2 (power), 42 GBUF (out), 43 AVDD1 (power), 44 RCAP, 45 AVDD2 (power), 46 LEFT (out), 47 AGND3 (power), 48 LINEIN

## WS2811-SOP8
designator IC?
footprint SO08-SKINNYPADS
pins: 1 R (oc), 2 G (oc), 3 B (oc), 4 GND (power), 5 DO (out), 6 DIN, 7 SET, 8 VDD (power)

## WS2812
designator LED?
footprint WS2812
pins: DI, DO (out), LEDVDD (power), VDD (power), VSS GND (power)

## WS2812B
designator L?
footprint WS2812B
pins: 1-VDD VDD, 2-DOUT DOUT (out), 3-GND GND, 4-DIN DIN

## XBEE
designator ?
footprint XBEE
pins: 1 VCC (oe), 2 DOUT (out), 3 DIN, 4 DO8 (out), 5 RESET, 6 PWM0/RSSI (out), 7 PWM1 (out), 8 RESERVED, 9 DTR/DI8, 10 GND (oe), 11 AD4/DIO4, 12 CTS/DIO7, 13 ON/SLEEP (out), 14 VREF, 15 ASC/AD5/DIO5, 16 RTS/AD6/DIO6, 17 AD3/DIO3, 18 AD2/DIO2, 19 AD1/DIO1, 20 AD0/DIO0

## XF2*-05?15-1
designator J?, comment <b>OMRON FPC Connector</b><p> / Source : http://www.omron.com/ecb/products/pdf/fpc.pdf
footprint XF2E-0515-1
part A pins: 1 MSV
part B pins: 2 MS
part C pins: 3 MS
part D pins: 4 MS
part E pins: 5 MS

## XF2*-05?35-1
designator J?, comment <b>OMRON FPC Connector</b><p> / Source : http://www.omron.com/ecb/products/pdf/fpc.pdf
footprint XF2L-0535-1
part A pins: 1 MSV
part B pins: 2 MS
part C pins: 3 MS
part D pins: 4 MS
part E pins: 5 MS

## XTAL-3.2X1.5
designator X?, comment Low cost SMT crystals, no capacitors included / <p>http://www.ladyada.net/library/eagle</p>
footprint XTAL3215
pins: P$1, P$2

## XTAL-4-3225
designator Q?, comment Classic 4-pin 3.2 x 2.5mm crystal
footprint NX3225
pins: 1 X1, 2 G2 (power), 3 X2, 4 G1 (power)

## XTALNX5032
designator X?, comment Low cost SMT crystals, no capacitors included / <p>http://www.ladyada.net/library/eagle</p>
footprint NX5032
pins: P$1, P$2

## XTALNX8045
designator X?, comment Low cost SMT crystals, no capacitors included / <p>http://www.ladyada.net/library/eagle</p>
footprint NX8045
pins: P$1, P$2